# EAGLE library part CHS-10 (library switch-copal)
Copal Electronics, Distributor Bürklin
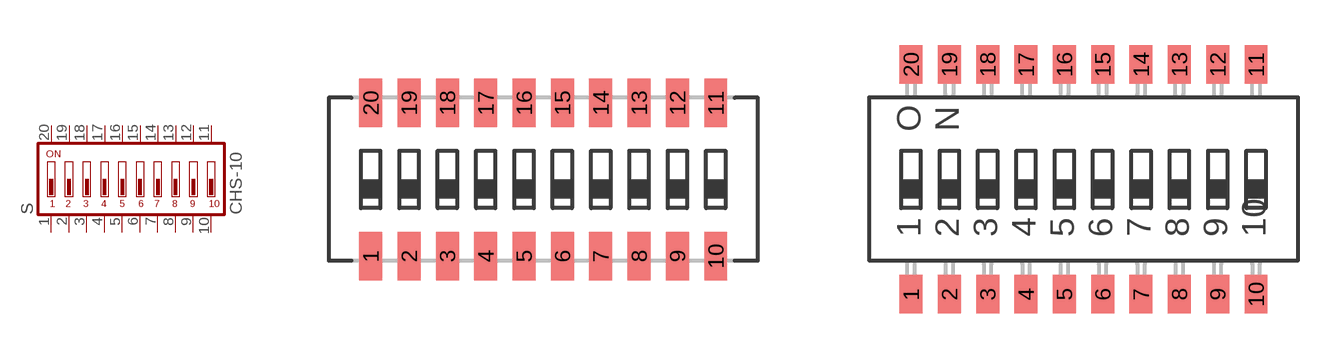
[diagram p3: symbol with the pads of CHS-10A; footprints CHS-10A, CHS-10B]

Designator prefix S

## CHS-10A  [CHS-10A]
1  1  pas
2  2  pas
3  3  pas
4  4  pas
5  5  pas
6  6  pas
7  7  pas
8  8  pas
9  9  pas
10  10  pas
11  11  pas
12  12  pas
13  13  pas
14  14  pas
15  15  pas
16  16  pas
17  17  pas
18  18  pas
19  19  pas
20  20  pas

## CHS-10B  [CHS-10B]
Pads as for CHS-10A

## Footprint CHS-10A (pad centres in mm)
10 bits, J-hook
smd 0.76 x 1.6: 1 0,-2.54; 2 1.27,-2.54; 3 2.54,-2.54; 4 3.81,-2.54; 5 5.08,-2.54; 6 6.35,-2.54; 7 7.62,-2.54; 8 8.89,-2.54; 9 10.16,-2.54; 10 11.43,-2.54; 11 11.43,2.54; 12 10.16,2.54; 13 8.89,2.54; 14 7.62,2.54; 15 6.35,2.54; 16 5.08,2.54; 17 3.81,2.54; 18 2.54,2.54; 19 1.27,2.54; 20 0,2.54

## Footprint CHS-10B (pad centres in mm)
10 bits, gull wing
smd 0.76 x 1.27: 1 0,-3.81; 2 1.27,-3.81; 3 2.54,-3.81; 4 3.81,-3.81; 5 5.08,-3.81; 6 6.35,-3.81; 7 7.62,-3.81; 8 8.89,-3.81; 9 10.16,-3.81; 10 11.43,-3.81; 11 11.43,3.81; 12 10.16,3.81; 13 8.89,3.81; 14 7.62,3.81; 15 6.35,3.81; 16 5.08,3.81; 17 3.81,3.81; 18 2.54,3.81; 19 1.27,3.81; 20 0,3.81